# Altium schematic symbol library ERA6ARB332V.SchLib: 1 symbol
Pins are listed as number, name and electrical type; pins without a type are passive.

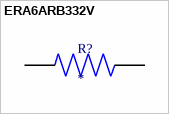
[diagram p0: symbol ERA6ARB332V]

## ERA6ARB332V
designator R?
RES 3.3K OHM 0.1% 1/8W 0805; MF: Panasonic; MP: ERA6ARB332V; Value: *; Check_prices: https://www.snapeda.com/parts/ERA6ARB332V/Panasonic/view-part/5767158/?ref=eda; Availability: In Stock; Package: 2012-2 Panasonic; SnapEDA_Link: https://www.snapeda.com/parts/ERA6ARB332V/Panasonic/view-part/5767158/?ref=snap; Price: None
footprint RES_ERA6ARB332V
pins: 1, 2